# Altium footprint library CONECTOR_2PIN.PcbLib: 1 footprints
Each footprint in its own frame and in the unit in brackets; x right, y up, seen from the top. Pads: shape width x height; smd on the part's side, far side on the other; paste and mask are expansions set on the pad; w line width, h text height; cw(c..) or ccw(c..) is an arc to the next point about the centre after c.
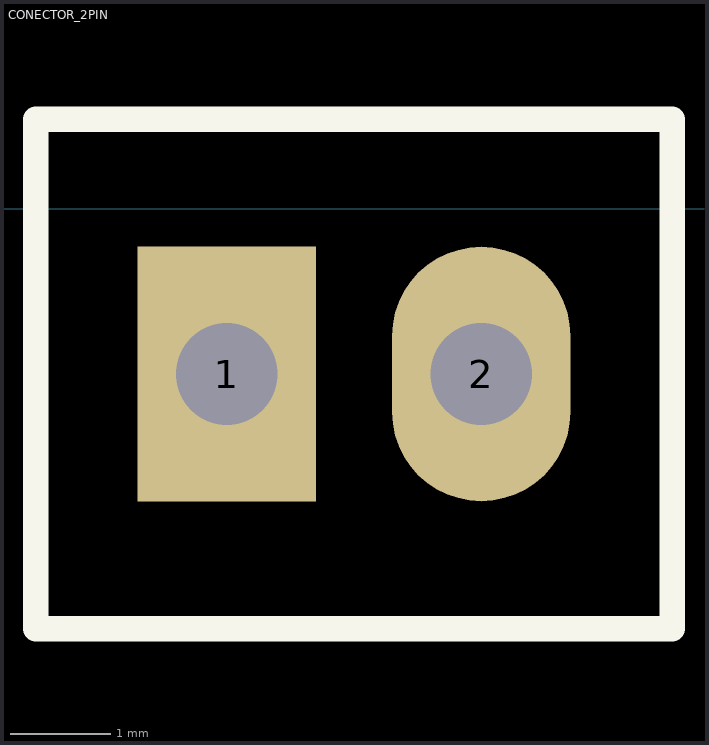
[diagram p0: the footprint, top view; thin cyan lines are the x and y axes]

## CONECTOR_2PIN [mil]
pads (2):
  rect 70x100 hole 40: 1(360,-65)
  oval 70x100 hole 40: 2(460,-65)
Top Overlay:
  lines w10: 285,-165 285,35 535,35 535,-165 285,-165